# Altium footprint library THU_VIEN_1.PcbLib: 69 footprints (part 5 of 5)
Each footprint in its own frame and in the unit in brackets; x right, y up, seen from the top. Pads: shape width x height; smd on the part's side, far side on the other; paste and mask are expansions set on the pad; w line width, h text height; cw(c..) or ccw(c..) is an arc to the next point about the centre after c.
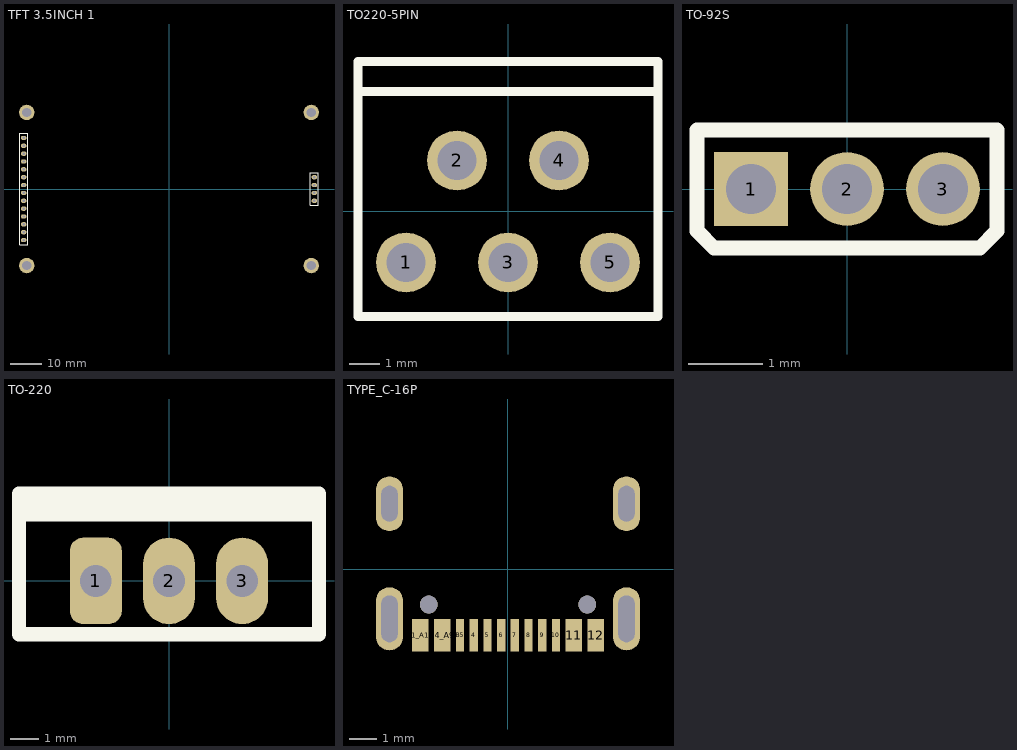
[diagram p4: the footprints below, top view; thin cyan lines are the x and y axes]

## TFT 3.5INCH 1 [mm]
pads (22):
  oval 1.8x1.4 hole 0.8 mask+0.15: 1(-47,16.51) 2(-47,13.97) 3(-47,11.43) 4(-47,8.89) 5(-47,6.35) 6(-47,3.81) 7(-47,1.27) 8(-47,-1.27) 9(-47,-3.81) 10(-47,-6.35) 11(-47,-8.89) 12(-47,-11.43) 13(-47,-13.97) 14(-47,-16.51) 15(47,-3.81) 16(47,-1.27) 17(47,1.27) 18(47,3.81)
  round 5 hole 3 mask+0.3: ""(-46,-24.75) ""(-46,24.75) ""(46,-24.75) ""(46,24.75)
Top Overlay:
  lines w0.3: -48.25,-17.98 -48.25,17.98 -45.75,17.98 -45.75,-17.98 -48.25,-17.98 ; 45.75,-5.28 48.25,-5.28 48.25,5.28 45.75,5.28 45.75,-5.28
3D body "3.5inch LCD Display Module SPI TFT ILI9488 65K Color Expandable Screen Panel HD v1.step": height 8.44, standoff -7.5, extent -49,-28.17 49,28.33

## TO220-5PIN [mm]
pads (5):
  round 2 hole 1.3: 1(-3.4,-1.7) 2(-1.7,1.7) 3(0,-1.7) 4(1.7,1.7) 5(3.4,-1.7)
Top Overlay:
  lines w0.3: -5,-3 -5,4 ; -5,-3 -5,-3.5 5,-3.5 5,-3 5,4 ; -5,-3 -5,4 ; -5,4 -5,5 5,5 5,4 ; -5,4 5,4
3D body "User Library-TO220-5.STEP": height 21.35, standoff -2.64, extent -5.08,-2.283 5.08,5.957

## TO-92S [mm]
pads (3):
  rect 1x1 hole 0.68: 1(-1.3,0)
  round 1 hole 0.68: 2(0,0) 3(1.3,0)
Top Overlay:
  lines w0.2: -2.032,-0.568 -2.032,0.8 2.032,0.8 2.032,-0.568 1.8,-0.8 -1.8,-0.8 -2.032,-0.568
3D body "SS441A.stp": height 7, standoff -6, extent -2.05,-0.8 2.05,0.8

## TO-220 [mm]
pads (3):
  rrect50% 1.8x3 hole 1.1: 1(-2.54,0)
  oval 1.8x3 hole 1.1: 2(0,0) 3(2.54,0)
Top Overlay:
  lines w0.3: -5.2,2.21 5.2,2.21 ; -5.2,2.41 5.2,2.41 ; -5.2,2.61 5.2,2.61 ; -5.2,2.81 5.2,2.81
  lines w0.5: -5.208,-1.857 -5.208,3.033 5.208,3.033 5.208,-1.857 -5.208,-1.857
3D body "step_temp.STEP": height 19.3, standoff -10.03, extent -5.207,-1.476 5.207,2.969

## TYPE_C-16P [mm]
pads (18):
  rect 0.3x1.2 smd mask+0.07: 4(-1.25,-2.4) 5(-0.75,-2.4) 6(-0.25,-2.4) 7(0.25,-2.4) 8(0.75,-2.4) 9(1.25,-2.4) 10(1.75,-2.4) B5(-1.75,-2.4)
  rect 0.6x1.2 smd mask+0.07: 11(2.4,-2.4) 12(3.2,-2.4) B1_A12(-3.2,-2.4) B4_A9(-2.4,-2.4)
  oval 1x2.3 hole 0.6 slot 1.7 at 90 deg paste+0: ""(-4.325,-1.8)
  oval 1x2 hole 0.6 slot 1.3 at 90 deg: ""(-4.325,2.4) ""(4.325,2.4)
  round 0.65 hole 0.65 mask+0: ""(-2.89,-1.28) ""(2.89,-1.28)
  oval 1x2.3 hole 0.6 slot 1.7 at 90 deg: ""(4.325,-1.8)
3D body "USB_type_C_smd_12p.stp": height 3.2, standoff -1.27, extent -4.6,-2.9 4.6,5.05